# Altium footprint library Acoustics.PcbLib: 18 footprints (part 2 of 2)
Each footprint in its own frame and in the unit in brackets; x right, y up, seen from the top. Pads: shape width x height; smd on the part's side, far side on the other; paste and mask are expansions set on the pad; w line width, h text height; cw(c..) or ccw(c..) is an arc to the next point about the centre after c.
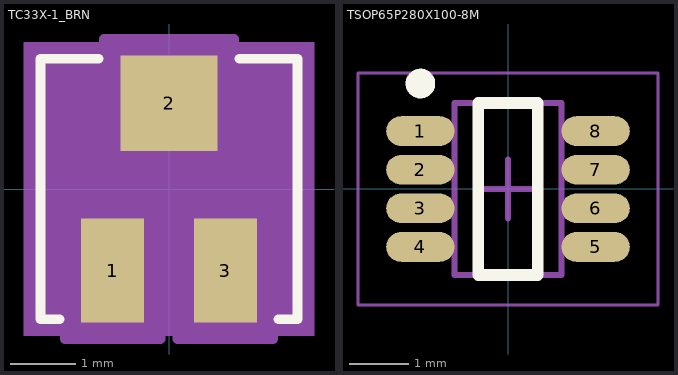
[diagram p1: the footprints below, top view; thin cyan lines are the x and y axes]

## TC33X-1_BRN [mil]
pads (3):
  rect 38x63 smd paste+0 mask+0: 1(-34.25,-49.5) 3(34.25,-49.5)
  rect 59x58 smd paste+0 mask+0: 2(0,52)
Top Overlay:
  lines w6: -66.35,-79 -78,-79 -78,79 -42.6,79 ; 42.6,79 78,79 78,-79 66.35,-79
Mechanical 5:
  region: -88,89 88,89 88,-89 -88,-89
Mechanical 13:
  circle w0: c-34.25,-64 r5
  lines w1: -73,-74 -73,74 73,74 73,-74 -73,-74 ; -53.25,-75 -53.25,-74 -15.25,-74 -15.25,-75 -53.25,-75 ; -29.5,74 29.5,74 29.5,75 -29.5,75 -29.5,74 ; 15.25,-75 15.25,-74 53.25,-74 53.25,-75 15.25,-75
Mechanical 15:
  region: -63.25,-84 -83,-84 -83,84 -39.5,84 -39.5,91 39.5,91 39.5,84 83,84 83,-84 63.25,-84 63.25,-91 5.25,-91 5.25,-84 -5.25,-84 -5.25,-91 -63.25,-91
  lines w6: -83,-84 -83,84 -39.5,84 -39.5,91 39.5,91 39.5,84 83,84 83,-84 63.25,-84 63.25,-91 5.25,-91 5.25,-84 -5.25,-84 -5.25,-91 -63.25,-91 -63.25,-84 -83,-84
3D body: height 10, standoff 0, extent 0,0 10,10

## TSOP65P280X100-8M [mm] "TSOP, 8-Leads, Body 2.90x1.63mm, Pitch 0.65mm, IPC Low Density"
height 1
pads (8):
  oval 1.15x0.5 smd: 1(-1.475,0.975) 2(-1.475,0.325) 3(-1.475,-0.325) 4(-1.475,-0.975) 5(1.475,-0.975) 6(1.475,-0.325) 7(1.475,0.325) 8(1.475,0.975)
Top Overlay:
  circle w0.25: c-1.475,1.775 r0.125
  lines w0.2: -0.5,-1.45 -0.5,1.45 0.5,1.45 0.5,-1.45 -0.5,-1.45
Mechanical 13:
  lines w0.1: -0.9,-1.45 -0.9,1.45 0.9,1.45 0.9,-1.45 -0.9,-1.45
Mechanical 15:
  lines w0.05: -2.525,-1.95 -2.525,1.95 2.525,1.95 2.525,-1.95 -2.525,-1.95
  lines w0.1: -0.5,0 0.5,0 ; 0,-0.5 0,0.5
3D body "TSOP65P280X100-8M.step": height 1, standoff 0, extent -1.4,-1.45 1.4,1.45